# EAGLE library part MICROCHIP_RN2483 (library Ava)
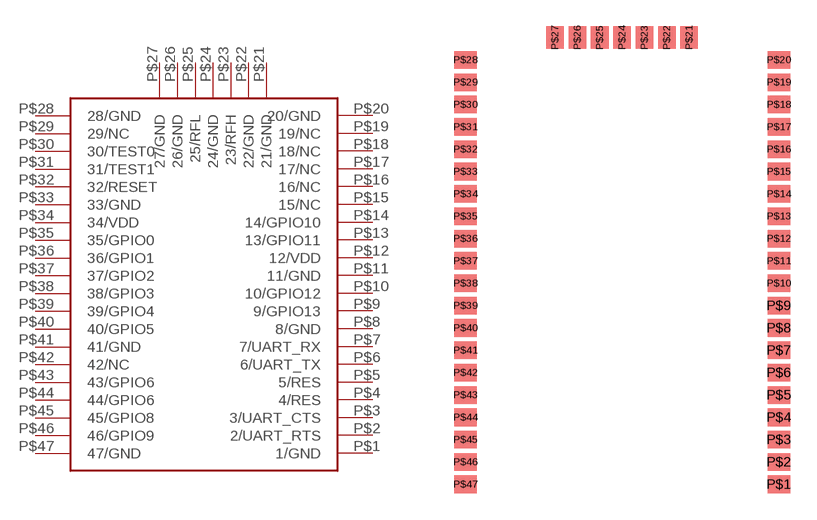
[diagram p61: symbol with the pads of MICROCHIP_RN2483; footprint MICROCHIP_RN2483]

Designator prefix -

## MICROCHIP_RN2483  [MICROCHIP_RN2483]
P$1  1/GND
P$2  2/UART_RTS
P$3  3/UART_CTS
P$4  4/RES
P$5  5/RES
P$6  6/UART_TX
P$7  7/UART_RX
P$8  8/GND
P$9  9/GPIO13
P$10  10/GPIO12
P$11  11/GND
P$12  12/VDD
P$13  13/GPIO11
P$14  14/GPIO10
P$15  15/NC
P$16  16/NC
P$17  17/NC
P$18  18/NC
P$19  19/NC
P$20  20/GND
P$21  21/GND
P$22  22/GND
P$23  23/RFH
P$24  24/GND
P$25  25/RFL
P$26  26/GND
P$27  27/GND
P$28  28/GND
P$29  29/NC
P$30  30/TEST0
P$31  31/TEST1
P$32  32/RESET
P$33  33/GND
P$34  34/VDD
P$35  35/GPIO0
P$36  36/GPIO1
P$37  37/GPIO2
P$38  38/GPIO3
P$39  39/GPIO4
P$40  40/GPIO5
P$41  41/GND
P$42  42/NC
P$43  43/GPIO6
P$44  44/GPIO6
P$45  45/GPIO8
P$46  46/GPIO9
P$47  47/GND

## Footprint MICROCHIP_RN2483 (pad centres in mm)
smd 1.27 x 1: P$1 8.91,-11.43; P$2 8.91,-10.16; P$3 8.91,-8.89; P$4 8.91,-7.62; P$5 8.91,-6.35; P$6 8.91,-5.08; P$7 8.91,-3.81; P$8 8.91,-2.54; P$9 8.91,-1.27; P$10 8.91,0; P$11 8.91,1.27; P$12 8.91,2.54; P$13 8.91,3.81; P$14 8.91,5.08; P$15 8.91,6.35; P$16 8.91,7.62; P$17 8.91,8.89; P$18 8.91,10.16; P$19 8.91,11.43; P$20 8.91,12.7; P$28 -8.89,12.7; P$29 -8.89,11.43; P$30 -8.89,10.16; P$31 -8.89,8.89; P$32 -8.89,7.62; P$33 -8.89,6.35; P$34 -8.89,5.08; P$35 -8.89,3.81; P$36 -8.89,2.54; P$37 -8.89,1.27; P$38 -8.89,0; P$39 -8.89,-1.27; P$40 -8.89,-2.54; P$41 -8.89,-3.81; P$42 -8.89,-5.08; P$43 -8.89,-6.35; P$44 -8.89,-7.62; P$45 -8.89,-8.89; P$46 -8.89,-10.16; P$47 -8.89,-11.43
smd 1 x 1.27: P$21 3.81,13.97; P$22 2.54,13.97; P$23 1.27,13.97; P$24 0,13.97; P$25 -1.27,13.97; P$26 -2.54,13.97; P$27 -3.81,13.97